# Altium schematic symbol library CC0603JRNPO9BN220.SchLib: 1 symbol
Pins are listed as number, name and electrical type; pins without a type are passive.

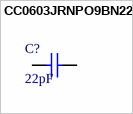
[diagram p0: symbol CC0603JRNPO9BN220]

## CC0603JRNPO9BN220
designator C?, comment 22pF
CAP CER 22PF 50V C0G/NPO 0603; Manufacturer 1: Yageo Group; Manufacturer Part Number 1: CC0603JRNPO9BN220; Dielectric: C0G; Dielectric Material: Ceramic; Temperature Coefficient: 30ppm/°C; Tolerance: 5%; Supplier 1: DigiKey; Stock 1: 876; Pricing 1: 1=0.11, 10=0.057, 50=0.039, 100=0.0334, 500=0.02416 (USD); RoHS: Compliant; Value: 22pF; Case/Package: 0603; Case Code (Imperial): 0603; Case Code (Metric): 1608; China RoHS: Compliant; Country of Origin: Mainland China, Taiwan; Depth: 800µm; Export Control Classification Number (ECCN) Code: EAR99; Halogen Free: Halogen Free; Height: 800µm; Harmonized Tariff Schedule (HTS) Code: 8532.24.00.20; Introduction Date: 2003-08-13; Lead Free: Lead Free; Length: 1.6mm; Lifecycle Status: Production; Max Operating Temperature: 125°C; Min Operating Temperature: -55°C; Mounting Technology: Surface Mount; Pins: 2; Number of Terminals: 2; Radiation Hardening: No; REACH SVHC: Unaffected; Schedule B: 8532240020, 8532240020|8532240020, 8532240020|8532240020|8532240020, 8532240020|8532240020|8532240020|8532240020; Termination: SMD/SMT; Thickness: 889µm; Voltage: 50V; Voltage Rating: 50V; Voltage Rating (AC): 50V; Voltage Rating (DC): 50V; Width: 800µm; ComponentLink1URL: https://datasheet.octopart.com:443/CC0603JRNPO9BN220-Yageo-datasheet-182140217.pdf?src-supplier=IHS; ComponentLink1Description: https://datasheet.octopart.com:443/CC0603JRNPO9BN220-Yageo-datasheet-182140217.pdf?src-supplier=IHS; ComponentLink2URL: https://datasheet.octopart.com:443/CC0603JRNPO9BN220-Yageo-datasheet-10406438.pdf?src-supplier=element14+APAC; ComponentLink2Description: https://datasheet.octopart.com:443/CC0603JRNPO9BN220-Yageo-datasheet-10406438.pdf?src-supplier=element14+APAC; ComponentLink3URL: https://datasheet.octopart.com:443/CC0603JRNPO9BN220-Yageo-datasheet-10882999.pdf?src-supplier=element14+APAC; ComponentLink3Description: https://datasheet.octopart.com:443/CC0603JRNPO9BN220-Yageo-datasheet-10882999.pdf?src-supplier=element14+APAC; ComponentLink4URL: https://datasheet.octopart.com:443/CC0603JRNPO9BN220-Yageo-datasheet-78855684.pdf?src-supplier=Upverter; ComponentLink4Description: https://datasheet.octopart.com:443/CC0603JRNPO9BN220-Yageo-datasheet-78855684.pdf?src-supplier=Upverter; ComponentLink5URL: https://datasheet.octopart.com:443/CC0603JRNPO9BN220-Yageo---Phycomp-datasheet-141445762.pdf?src-supplier=Upverter; ComponentLink5Description: https://datasheet.octopart.com:443/CC0603JRNPO9BN220-Yageo---Phycomp-datasheet-141445762.pdf?src-supplier=Upverter; ComponentLink6URL: https://datasheet.octopart.com:443/CC0603JRNPO9BN220-Yageo-Group-datasheet-192360829.pdf?src-supplier=Future+Electronics; ComponentLink6Description: https://datasheet.octopart.com:443/CC0603JRNPO9BN220-Yageo-Group-datasheet-192360829.pdf?src-supplier=Future+Electronics; ComponentLink7URL: https://datasheet.octopart.com:443/CC0603JRNPO9BN220-Yageo-datasheet-12589826.pdf?src-supplier=Future+Electronics; ComponentLink7Description: https://datasheet.octopart.com:443/CC0603JRNPO9BN220-Yageo-datasheet-12589826.pdf?src-supplier=Future+Electronics; ComponentLink8URL: https://datasheet.octopart.com:443/CC0603JRNPO9BN220-Yageo-datasheet-137875056.pdf?src-supplier=Future+Electronics; ComponentLink8Description: https://datasheet.octopart.com:443/CC0603JRNPO9BN220-Yageo-datasheet-137875056.pdf?src-supplier=Future+Electronics; ComponentLink9URL: https://datasheet.octopart.com:443/CC0603JRNPO9BN220-Yageo-datasheet-136957424.pdf?src-supplier=Future+Electronics; ComponentLink9Description: https://datasheet.octopart.com:443/CC0603JRNPO9BN220-Yageo-datasheet-136957424.pdf?src-supplier=Future+Electronics; ComponentLink10URL: https://datasheet.octopart.com:443/CC0603JRNPO9BN220-Yageo-datasheet-137700082.pdf?src-supplier=Future+Electronics; ComponentLink10Description: https://datasheet.octopart.com:443/CC0603JRNPO9BN220-Yageo-datasheet-137700082.pdf?src-supplier=Future+Electronics; ComponentLink11URL: https://datasheet.octopart.com:443/CC0603JRNPO9BN220-Yageo-datasheet-62091628.pdf?src-supplier=Future+Electronics; ComponentLink11Description: https://datasheet.octopart.com:443/CC0603JRNPO9BN220-Yageo-datasheet-62091628.pdf?src-supplier=Future+Electronics; ComponentLink12URL: https://datasheet.octopart.com:443/CC0603JRNPO9BN220-Yageo-datasheet-16730043.pdf?src-supplier=Future+Electronics; ComponentLink12Description: https://datasheet.octopart.com:443/CC0603JRNPO9BN220-Yageo-datasheet-16730043.pdf?src-supplier=Future+Electronics; ComponentLink13URL: https://datasheet.octopart.com:443/CC0603JRNPO9BN220-Yageo-datasheet-15895757.pdf?src-supplier=Future+Electronics; ComponentLink13Description: https://datasheet.octopart.com:443/CC0603JRNPO9BN220-Yageo-datasheet-15895757.pdf?src-supplier=Future+Electronics; ComponentLink14URL: https://datasheet.octopart.com:443/CC0603JRNPO9BN220-Yageo-datasheet-151948684.pdf?src-supplier=Newark; ComponentLink14Description: https://datasheet.octopart.com:443/CC0603JRNPO9BN220-Yageo-datasheet-151948684.pdf?src-supplier=Newark; ComponentLink15URL: https://datasheet.octopart.com:443/CC0603JRNPO9BN220-Phycomp-datasheet-504625.pdf?src-supplier=Newark; ComponentLink15Description: https://datasheet.octopart.com:443/CC0603JRNPO9BN220-Phycomp-datasheet-504625.pdf?src-supplier=Newark; ComponentLink16URL: https://datasheet.octopart.com:443/CC0603JRNPO9BN220-Yageo-datasheet-181968203.pdf?src-supplier=Newark; ComponentLink16Description: https://datasheet.octopart.com:443/CC0603JRNPO9BN220-Yageo-datasheet-181968203.pdf?src-supplier=Newark; ComponentLink17URL: https://datasheet.octopart.com:443/CC0603JRNPO9BN220-Yageo-datasheet-24578986.pdf?src-supplier=Newark; ComponentLink17Description: https://datasheet.octopart.com:443/CC0603JRNPO9BN220-Yageo-datasheet-24578986.pdf?src-supplier=Newark; ComponentLink18URL: https://datasheet.octopart.com:443/CC0603JRNPO9BN220-Yageo-datasheet-67645495.pdf?src-supplier=Newark; ComponentLink18Description: https://datasheet.octopart.com:443/CC0603JRNPO9BN220-Yageo-datasheet-67645495.pdf?src-supplier=Newark; ComponentLink19URL: https://datasheet.octopart.com:443/CC0603JRNPO9BN220-Yageo-datasheet-65873193.pdf?src-supplier=Farnell; ComponentLink19Description: https://datasheet.octopart.com:443/CC0603JRNPO9BN220-Yageo-datasheet-65873193.pdf?src-supplier=Farnell; ComponentLink20URL: https://datasheet.octopart.com:443/CC0603JRNPO9BN220-Yageo-Group-datasheet-188689597.pdf?src-supplier=Farnell; ComponentLink20Description: https://datasheet.octopart.com:443/CC0603JRNPO9BN220-Yageo-Group-datasheet-188689597.pdf?src-supplier=Farnell; ComponentLink21URL: https://datasheet.octopart.com:443/CC0603JRNPO9BN220-Yageo-datasheet-8817079.pdf?src-supplier=element14; ComponentLink21Description: https://datasheet.octopart.com:443/CC0603JRNPO9BN220-Yageo-datasheet-8817079.pdf?src-supplier=element14; ComponentLink22URL: https://datasheet.octopart.com:443/CC0603JRNPO9BN220-Yageo-datasheet-8324240.pdf?src-supplier=element14; ComponentLink22Description: https://datasheet.octopart.com:443/CC0603JRNPO9BN220-Yageo-datasheet-8324240.pdf?src-supplier=element14; ComponentLink23URL: https://datasheet.octopart.com:443/CC0603JRNPO9BN220-Yageo-datasheet-5321569.pdf?src-supplier=element14; ComponentLink23Description: https://datasheet.octopart.com:443/CC0603JRNPO9BN220-Yageo-datasheet-5321569.pdf?src-supplier=element14; ComponentLink24URL: https://datasheet.octopart.com:443/CC0603JRNPO9BN220-Yageo-datasheet-8643175.pdf?src-supplier=SOS+electronic; ComponentLink24Description: https://datasheet.octopart.com:443/CC0603JRNPO9BN220-Yageo-datasheet-8643175.pdf?src-supplier=SOS+electronic; ComponentLink25URL: https://datasheet.octopart.com:443/CC0603JRNPO9BN220-Yageo-datasheet-8555986.pdf?src-supplier=TME; ComponentLink25Description: https://datasheet.octopart.com:443/CC0603JRNPO9BN220-Yageo-datasheet-8555986.pdf?src-supplier=TME; ComponentLink26URL: https://datasheet.octopart.com:443/CC0603JRNPO9BN220-Yageo-datasheet-68296204.pdf?src-supplier=Megastar; ComponentLink26Description: https://datasheet.octopart.com:443/CC0603JRNPO9BN220-Yageo-datasheet-68296204.pdf?src-supplier=Megastar; ComponentLink27URL: http://sigma.octopart.com:80/conflict_mineral_statement/Yageo-company-3.pdf?src-supplier=Compliance+Statements; ComponentLink27Description: http://sigma.octopart.com:80/conflict_mineral_statement/Yageo-company-3.pdf?src-supplier=Compliance+Statements; ComponentLink28URL: http://sigma.octopart.com:80/rohs_statement/Yageo-company-2.pdf?src-supplier=Compliance+Statements; ComponentLink28Description: http://sigma.octopart.com:80/rohs_statement/Yageo-company-2.pdf?src-supplier=Compliance+Statements; Supplier Part Number 1: 311-1062-1-ND
footprint CAPC1608X90
footprint CAPC1608X90 - 22PF
footprint CAPC1608X90 - 22PF
pins: 1, 2